# EAGLE library part LTM4606XV (library dubec)
40V, 2A Synchronous Buck-Boost DC/DC Converter
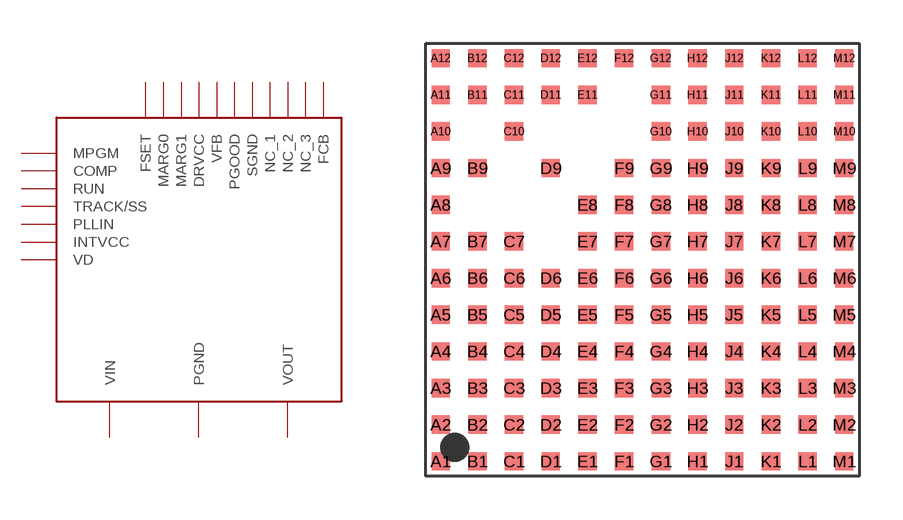
[diagram p0: symbol with the pads of LGA-133; footprint LGA-133]

Designator prefix -

## LTM4606XV  [LGA-133]
A1  VIN  in
A2  VIN  in
A3  VIN  in
A4  VIN  in
A5  VIN  in
A6  VIN  in
A7  INTVCC  in
A8  PLLIN  in
A9  TRACK/SS  in
A10  RUN  in
A11  COMP  in
A12  MPGM  in
B1  VIN  in
B2  VIN  in
B3  VIN  in
B4  VIN  in
B5  VIN  in
B6  VIN  in
B7  VD
B9  RUN  in
B11  MPGM  in
B12  FSET  in
C1  VIN  in
C2  VIN  in
C3  VIN  in
C4  VIN  in
C5  VIN  in
C6  VIN  in
C7  VD
C10  DRVCC  in
C11  MARG1  in
C12  MARG0  in
D1  PGND
D2  PGND
D3  PGND
D4  PGND
D5  PGND
D6  PGND
D9  SGND  in
D11  COMP  in
D12  MARG1  in
E1  PGND
E2  PGND
E3  PGND
E4  PGND
E5  PGND
E6  PGND
E7  PGND
E8  PGND
E11  DRVCC  in
E12  DRVCC  in
F1  PGND
F2  PGND
F3  PGND
F4  PGND
F5  PGND
F6  PGND
F7  PGND
F8  PGND
F9  PGND
F12  VFB  in
G1  PGND
G2  PGND
G3  PGND
G4  PGND
G5  PGND
G6  PGND
G7  PGND
G8  PGND
G9  PGND
G10  PGND
G11  PGND
G12  PGOOD  in
H1  PGND
H2  PGND
H3  PGND
H4  PGND
H5  PGND
H6  PGND
H7  PGND
H8  PGND
H9  PGND
H10  PGND
H11  PGND
H12  SGND  in
J1  VOUT  out
J2  VOUT  out
J3  VOUT  out
J4  VOUT  out
J5  VOUT  out
J6  VOUT  out
J7  VOUT  out
J8  VOUT  out
J9  VOUT  out
J10  VOUT  out
J11  VOUT  out
J12  NC_1  out
K1  VOUT  out
K2  VOUT  out
K3  VOUT  out
K4  VOUT  out
K5  VOUT  out
K6  VOUT  out
K7  VOUT  out
K8  VOUT  out
K9  VOUT  out
K10  VOUT  out
K11  VOUT  out
K12  NC_2  out
L1  VOUT  out
L2  VOUT  out
L3  VOUT  out
L4  VOUT  out
L5  VOUT  out
L6  VOUT  out
L7  VOUT  out
L8  VOUT  out
L9  VOUT  out
L10  VOUT  out
L11  VOUT  out
L12  NC_3  out
M1  VOUT  out
M2  VOUT  out
M3  VOUT  out
M4  VOUT  out
M5  VOUT  out
M6  VOUT  out
M7  VOUT  out
M8  VOUT  out
M9  VOUT  out
M10  VOUT  out
M11  VOUT  out
M12  FCB  in

## Footprint LGA-133 (pad centres in mm)
LGA Package 133-Lead 15mm × 15mm × 2.82mm Reference LTC DWG # 05-08-1766 Rev A
smd 0.635 x 0.635: A1 -6.985,-6.985; A2 -6.985,-5.715; A3 -6.985,-4.445; A4 -6.985,-3.175; A5 -6.985,-1.905; A6 -6.985,-0.635; A7 -6.985,0.635; A8 -6.985,1.905; A9 -6.985,3.175; A10 -6.985,4.445; A11 -6.985,5.715; A12 -6.985,6.985; B1 -5.715,-6.985; B2 -5.715,-5.715; B3 -5.715,-4.445; B4 -5.715,-3.175; B5 -5.715,-1.905; B6 -5.715,-0.635; B7 -5.715,0.635; B9 -5.715,3.175; B11 -5.715,5.715; B12 -5.715,6.985; C1 -4.445,-6.985; C2 -4.445,-5.715; C3 -4.445,-4.445; C4 -4.445,-3.175; C5 -4.445,-1.905; C6 -4.445,-0.635; C7 -4.445,0.635; C10 -4.445,4.445; C11 -4.445,5.715; C12 -4.445,6.985; D1 -3.175,-6.985; D2 -3.175,-5.715; D3 -3.175,-4.445; D4 -3.175,-3.175; D5 -3.175,-1.905; D6 -3.175,-0.635; D9 -3.175,3.175; D11 -3.175,5.715; D12 -3.175,6.985; E1 -1.905,-6.985; E2 -1.905,-5.715; E3 -1.905,-4.445; E4 -1.905,-3.175; E5 -1.905,-1.905; E6 -1.905,-0.635; E7 -1.905,0.635; E8 -1.905,1.905; E11 -1.905,5.715; E12 -1.905,6.985; F1 -0.635,-6.985; F2 -0.635,-5.715; F3 -0.635,-4.445; F4 -0.635,-3.175; F5 -0.635,-1.905; F6 -0.635,-0.635; F7 -0.635,0.635; F8 -0.635,1.905; F9 -0.635,3.175; F12 -0.635,6.985; G1 0.635,-6.985; G2 0.635,-5.715; G3 0.635,-4.445; G4 0.635,-3.175; G5 0.635,-1.905; G6 0.635,-0.635; G7 0.635,0.635; G8 0.635,1.905; G9 0.635,3.175; G10 0.635,4.445; G11 0.635,5.715; G12 0.635,6.985; H1 1.905,-6.985; H2 1.905,-5.715; H3 1.905,-4.445; H4 1.905,-3.175; H5 1.905,-1.905; H6 1.905,-0.635; H7 1.905,0.635; H8 1.905,1.905; H9 1.905,3.175; H10 1.905,4.445; H11 1.905,5.715; H12 1.905,6.985; J1 3.175,-6.985; J2 3.175,-5.715; J3 3.175,-4.445; J4 3.175,-3.175; J5 3.175,-1.905; J6 3.175,-0.635; J7 3.175,0.635; J8 3.175,1.905; J9 3.175,3.175; J10 3.175,4.445; J11 3.175,5.715; J12 3.175,6.985; K1 4.445,-6.985; K2 4.445,-5.715; K3 4.445,-4.445; K4 4.445,-3.175; K5 4.445,-1.905; K6 4.445,-0.635; K7 4.445,0.635; K8 4.445,1.905; K9 4.445,3.175; K10 4.445,4.445; K11 4.445,5.715; K12 4.445,6.985; L1 5.715,-6.985; L2 5.715,-5.715; L3 5.715,-4.445; L4 5.715,-3.175; L5 5.715,-1.905; L6 5.715,-0.635; L7 5.715,0.635; L8 5.715,1.905; L9 5.715,3.175; L10 5.715,4.445; L11 5.715,5.715; L12 5.715,6.985; M1 6.985,-6.985; M2 6.985,-5.715; M3 6.985,-4.445; M4 6.985,-3.175; M5 6.985,-1.905; M6 6.985,-0.635; M7 6.985,0.635; M8 6.985,1.905; M9 6.985,3.175; M10 6.985,4.445; M11 6.985,5.715; M12 6.985,6.985